# Altium schematic symbol library Fuses.SchLib: 10 symbols
Pins are listed as number, name and electrical type; pins without a type are passive.

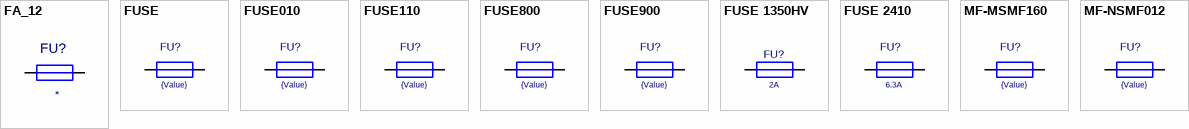
[diagram p0: symbols FA_12 to MF-NSMF012]

## FA_12
designator FU?
footprint FA_12
pins: 1, 2

## FUSE
designator FU?  value {Value}  (hidden comment: *)
FUSE
pins: 1, 2

## FUSE010
designator FU?  value {Value}  (hidden comment: *)
FUSE010
footprint FUSE010
pins: 1, 2

## FUSE110
designator FU?  value {Value}  (hidden comment: *)
FUSE110
footprint MF-R110
pins: 1, 2

## FUSE800
designator FU?  value {Value}  (hidden comment: *)
FUSE800
footprint FUSE800
pins: 1, 2, 3 hidden, 4 hidden

## FUSE900
designator FU?  value {Value}  (hidden comment: *)
FUSE900
footprint MF-R900
pins: 1, 2

## FUSE 1350HV
designator FU?, comment value 2A  (hidden comment: TR-1350HV2-R)
High voltage fast-acting brick fuse
footprint FUSE 1350HV
pins: 1, 2

## FUSE 2410
designator FU?, comment value 6.3A  (hidden comment: 0679L6300-05)
MF-MSMF160
footprint FUSE2410
pins: 1, 2

## MF-MSMF160
designator FU?  value {Value}  (hidden comment: *)
MF-MSMF160
footprint FUSE1812
pins: 1, 2

## MF-NSMF012
designator FU?  value {Value}  (hidden comment: *)
MF-NSMF012
footprint FUSE1206
pins: 1, 2